# Altium schematic symbol library ar488_driver_schematic_library.SchLib: 4 symbols
Pins are listed as number, name and electrical type; pins without a type are passive.

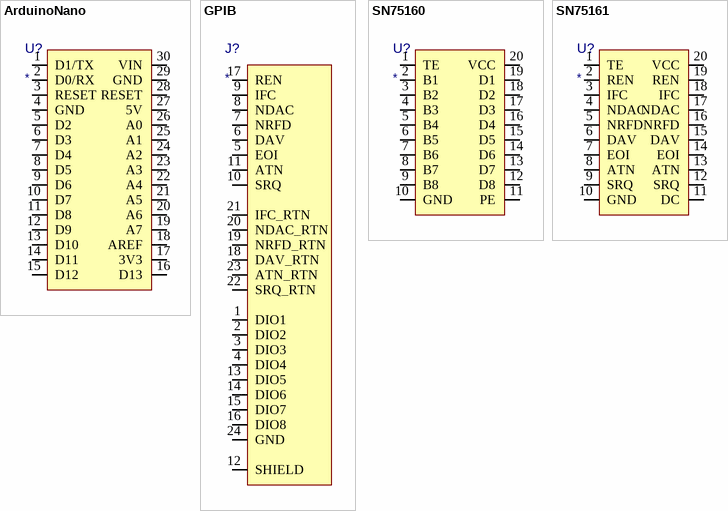
[diagram p0: symbols ArduinoNano to SN75161]

## ArduinoNano
designator U?
Arduino Nano; Supplier 1: Mouser; Supplier Part Number 1: 782-A000005
footprint NANO
pins: 1 D1/TX, 2 D0/RX, 3 RESET, 4 GND, 5 D2, 6 D3, 7 D4, 8 D5, 9 D6, 10 D7, 11 D8, 12 D9, 13 D10, 14 D11, 15 D12, 16 D13, 17 3V3, 18 AREF, 19 A7, 20 A6, 21 A5, 22 A4, 23 A3, 24 A2, 25 A1, 26 A0, 27 5V, 28 RESET, 29 GND, 30 VIN

## GPIB
designator J?
Wire-to-Board GPIB Connections
footprint GPIB
pins: 1 DIO1, 2 DIO2, 3 DIO3, 4 DIO4, 5 EOI, 6 DAV, 7 NRFD, 8 NDAC, 9 IFC, 10 SRQ, 11 ATN, 12 SHIELD, 13 DIO5, 14 DIO6, 15 DIO7, 16 DIO8, 17 REN, 18 DAV_RTN, 19 NRFD_RTN, 20 NDAC_RTN, 21 IFC_RTN, 22 SRQ_RTN, 23 ATN_RTN, 24 GND

## SN75160
designator U?
Octal General-Purpose Interface Bus Tranceiver; Supplier 1: Mouser; Supplier Part Number 1: 595-SN75160BN
footprint SN75160
pins: 1 TE, 2 B1, 3 B2, 4 B3, 5 B4, 6 B5, 7 B6, 8 B7, 9 B8, 10 GND, 11 PE, 12 D8, 13 D7, 14 D6, 15 D5, 16 D4, 17 D3, 18 D2, 19 D1, 20 VCC

## SN75161
designator U?
Octal General-Purpose Interface Bus Tranceiver; Supplier 1: Mouser; Supplier Part Number 1: 595-SN75161BN
footprint SN75161
pins: 1 TE, 2 REN, 3 IFC, 4 NDAC, 5 NRFD, 6 DAV, 7 EOI, 8 ATN, 9 SRQ, 10 GND, 11 DC, 12 SRQ, 13 ATN, 14 EOI, 15 DAV, 16 NRFD, 17 NDAC, 18 IFC, 19 REN, 20 VCC